# Altium schematic symbol library BAT54C.Schlib: 1 symbol
Pins are listed as number, name and electrical type; pins without a type are passive.

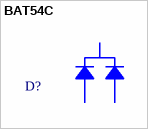
[diagram p0: symbol BAT54C]

## BAT54C
designator D?
Small Signal Schottky Diodes
pins: 1, 2, 3